# EAGLE library part BMF055 (library custom)
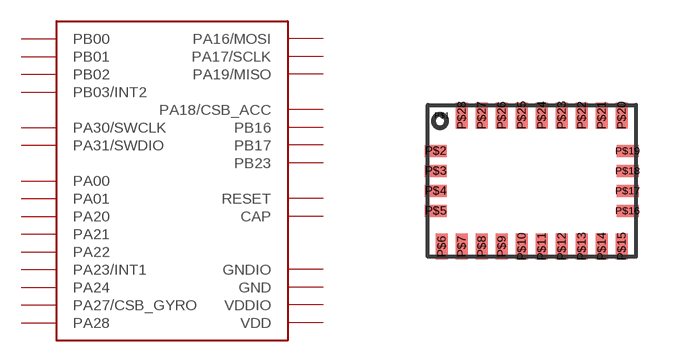
[diagram p1: symbol with the pads of LGA-28; footprint LGA-28]

Designator prefix -

## BMF055  [LGA-28]
P$1  PB03/INT2
P$2  GND
P$3  VDD
P$4  PB02
P$5  PB01
P$6  PB00
P$7  PA31/SWDIO
P$8  PA30/SWCLK
P$9  CAP
P$10  PA28
P$11  RESET
P$12  PA27/CSB_GYRO
P$13  PB23
P$14  PA24
P$15  PA23/INT1
P$16  PA22
P$17  PA21
P$18  PA20
P$19  PB17
P$20  PB16
P$21  PA19/MISO
P$22  PA18/CSB_ACC
P$23  PA17/SCLK
P$24  PA16/MOSI
P$25  GNDIO
P$26  PA01
P$27  PA00
P$28  VDDIO

## Footprint LGA-28 (pad centres in mm)
smd 0 x 0: P$1 -2.25,1.643
smd 0.55 x 0.3: P$2 -2.41,0.75; P$3 -2.41,0.25; P$4 -2.41,-0.25; P$5 -2.41,-0.75; P$16 2.39,-0.75; P$17 2.39,-0.25; P$18 2.39,0.25; P$19 2.39,0.75
smd 0.3 x 0.65: P$6 -2.25,-1.643; P$7 -1.75,-1.643; P$8 -1.25,-1.643; P$9 -0.75,-1.643; P$10 -0.25,-1.643; P$11 0.25,-1.643; P$12 0.75,-1.643; P$13 1.25,-1.643; P$14 1.75,-1.643; P$15 2.25,-1.643; P$20 2.25,1.643; P$21 1.75,1.643; P$22 1.25,1.643; P$23 0.75,1.643; P$24 0.25,1.643; P$25 -0.25,1.643; P$26 -0.75,1.643; P$27 -1.25,1.643; P$28 -1.75,1.643